# Altium footprint library ESP32WROOM32D.PcbLib: 1 footprints
Each footprint in its own frame and in the unit in brackets; x right, y up, seen from the top. Pads: shape width x height; smd on the part's side, far side on the other; paste and mask are expansions set on the pad; w line width, h text height; cw(c..) or ccw(c..) is an arc to the next point about the centre after c.
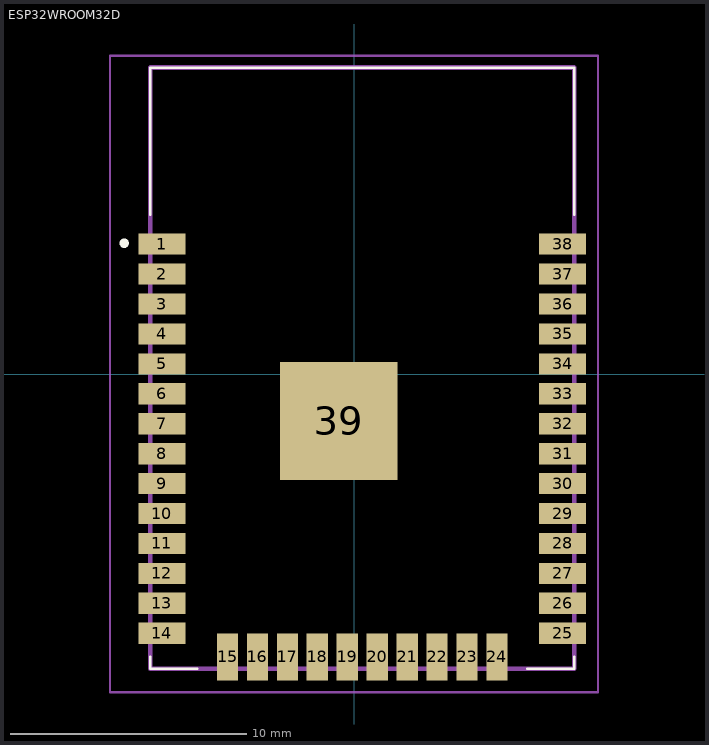
[diagram p0: the footprint, top view; thin cyan lines are the x and y axes]

## ESP32WROOM32D [mm]
pads (39):
  rect 2x0.9 smd: 1(-8.15,5.51) 2(-8.15,4.24) 3(-8.15,2.97) 4(-8.15,1.7) 5(-8.15,0.43) 6(-8.15,-0.84) 7(-8.15,-2.11) 8(-8.15,-3.38) 9(-8.15,-4.65) 10(-8.15,-5.92) 11(-8.15,-7.19) 12(-8.15,-8.46) 13(-8.15,-9.73) 14(-8.15,-11) 25(8.85,-11) 26(8.85,-9.73) 27(8.85,-8.46) 28(8.85,-7.19) 29(8.85,-5.92) 30(8.85,-4.65) 31(8.85,-3.38) 32(8.85,-2.11) 33(8.85,-0.84) 34(8.85,0.43) 35(8.85,1.7) 36(8.85,2.97) 37(8.85,4.24) 38(8.85,5.51)
  rect 0.9x2 smd: 15(-5.365,-12) 16(-4.095,-12) 17(-2.825,-12) 18(-1.555,-12) 19(-0.285,-12) 20(0.985,-12) 21(2.255,-12) 22(3.525,-12) 23(4.795,-12) 24(6.065,-12)
  rrect0% 5x5 smd: 39(-0.65,-1.99)
Top Overlay:
  lines w0.1: -8.65,-12 -8.65,-12.5 -6.65,-12.5 ; -8.65,6.75 -8.65,13 9.35,13 9.35,6.75 ; 7.35,-12.5 9.35,-12.5 9.35,-12
  lines w0.2: -9.75,5.45 cw(c-9.75,5.55) -9.75,5.65 cw(c-9.75,5.55) -9.75,5.45
Mechanical 15:
  lines w0.2: -8.65,-12.5 -8.65,13 9.35,13 9.35,-12.5 -8.65,-12.5
Mechanical 20:
  lines w0.1: -10.35,-13.5 -10.35,13.5 10.35,13.5 10.35,-13.5 -10.35,-13.5
3D body "ESP32-WROOM-32D.stp": height 2.7, standoff -0.4, extent -8.619,-12.446 9.381,13.054